# Altium footprint library con-hirose.PCBLIB: 71 footprints (part 4 of 6)
Each footprint in its own frame and in the unit in brackets; x right, y up, seen from the top. Pads: shape width x height; smd on the part's side, far side on the other; paste and mask are expansions set on the pad; w line width, h text height; cw(c..) or ccw(c..) is an arc to the next point about the centre after c.
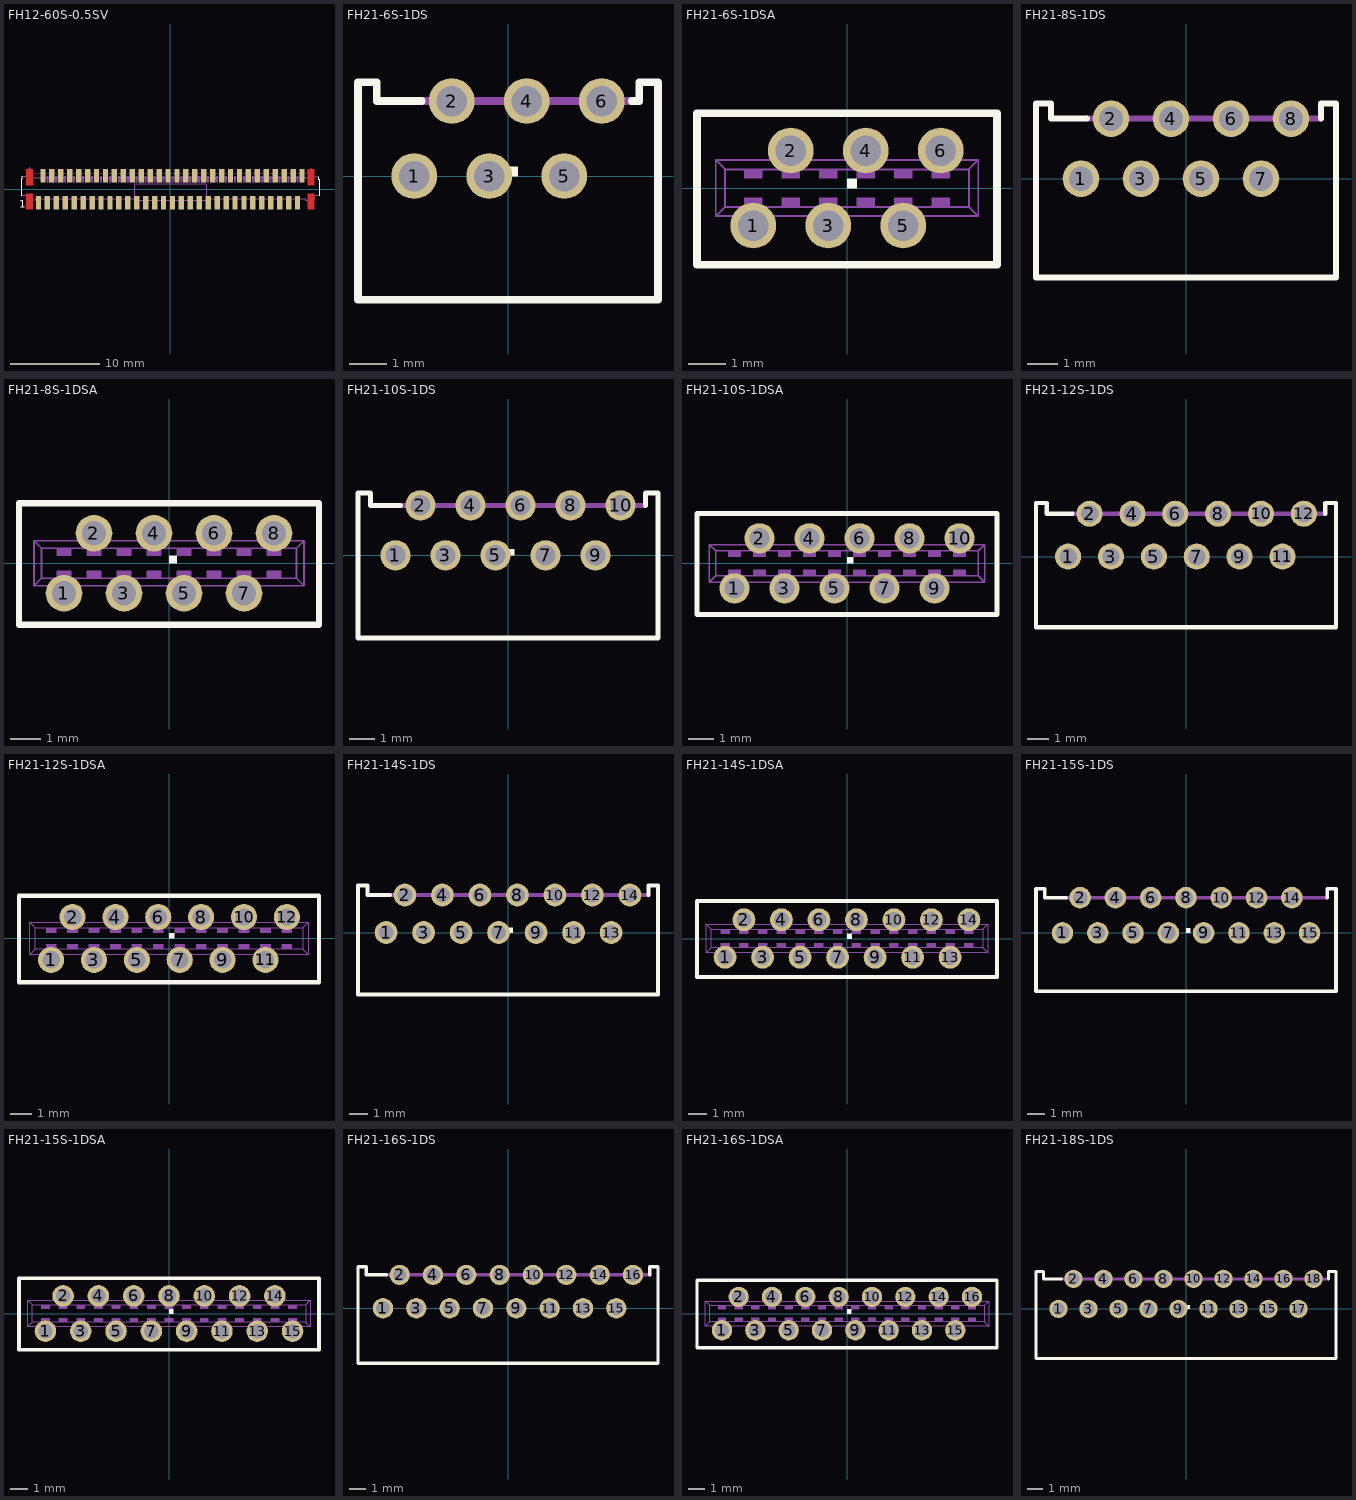
[diagram p3: the footprints below, top view; thin cyan lines are the x and y axes]

## FH12-60S-0.5SV [mm]
pads (60):
  rect 0.6x1.5 smd: 1(-14.75,-1.5) 2(-14.25,1.5) 3(-13.75,-1.5) 4(-13.25,1.5) 5(-12.75,-1.5) 6(-12.25,1.5) 7(-11.75,-1.5) 8(-11.25,1.5) 9(-10.75,-1.5) 10(-10.25,1.5) 11(-9.75,-1.5) 12(-9.25,1.5) 13(-8.75,-1.5) 14(-8.25,1.5) 15(-7.75,-1.5) 16(-7.25,1.5) 17(-6.75,-1.5) 18(-6.25,1.5) 19(-5.75,-1.5) 20(-5.25,1.5) 21(-4.75,-1.5) 22(-4.25,1.5) 23(-3.75,-1.5) 24(-3.25,1.5) 25(-2.75,-1.5) 26(-2.25,1.5) 27(-1.75,-1.5) 28(-1.25,1.5) 29(-0.75,-1.5) 30(-0.25,1.5) 31(0.25,-1.5) 32(0.75,1.5) 33(1.25,-1.5) 34(1.75,1.5) 35(2.25,-1.5) 36(2.75,1.5) 37(3.25,-1.5) 38(3.75,1.5) 39(4.25,-1.5) 40(4.75,1.5) 41(5.25,-1.5) 42(5.75,1.5) 43(6.25,-1.5) 44(6.75,1.5) 45(7.25,-1.5) 46(7.75,1.5) 47(8.25,-1.5) 48(8.75,1.5) 49(9.25,-1.5) 50(9.75,1.5) 51(10.25,-1.5) 52(10.75,1.5) 53(11.25,-1.5) 54(11.75,1.5) 55(12.25,-1.5) 56(12.75,1.5) 57(13.25,-1.5) 58(13.75,1.5) 59(14.25,-1.5) 60(14.75,1.5)
Top Layer:
  rectangle: -16.15,0.45 -15.35,2.25
  rectangle: -16.15,-2.25 -15.35,-0.45
  region: 16.15,-0.45 15.35,-0.45 15.35,-2.25 16.15,-2.25
  region: 16.15,2.25 15.35,2.25 15.35,0.45 16.15,0.45
Top Overlay:
  lines w0.102: -16.65,-0.697 -16.65,1.179 -16.55,1.179 -16.55,1.478 ; 16.55,1.427 16.55,1.129 16.65,1.129 16.65,-0.731
  text "1" at -16.932,-2.042 h0.86
Top Paste:
  rectangle: -15,-2.2 -14.5,-0.8
  rectangle: -14.5,0.8 -14,2.2
  rectangle: -14,-2.2 -13.5,-0.8
  rectangle: -13.5,0.8 -13,2.2
  rectangle: -13,-2.2 -12.5,-0.8
  rectangle: -12.5,0.8 -12,2.2
  rectangle: -12,-2.2 -11.5,-0.8
  rectangle: -11.5,0.8 -11,2.2
  rectangle: -11,-2.2 -10.5,-0.8
  rectangle: -10.5,0.8 -10,2.2
  rectangle: -10,-2.2 -9.5,-0.8
  rectangle: -9.5,0.8 -9,2.2
  rectangle: -9,-2.2 -8.5,-0.8
  rectangle: -8.5,0.8 -8,2.2
  rectangle: -8,-2.2 -7.5,-0.8
  rectangle: -7.5,0.8 -7,2.2
  rectangle: -7,-2.2 -6.5,-0.8
  rectangle: -6.5,0.8 -6,2.2
  rectangle: -6,-2.2 -5.5,-0.8
  rectangle: -5.5,0.8 -5,2.2
  rectangle: -5,-2.2 -4.5,-0.8
  rectangle: -4.5,0.8 -4,2.2
  rectangle: -4,-2.2 -3.5,-0.8
  rectangle: -3.5,0.8 -3,2.2
  rectangle: -3,-2.2 -2.5,-0.8
  rectangle: -2.5,0.8 -2,2.2
  rectangle: -2,-2.2 -1.5,-0.8
  rectangle: -1.5,0.8 -1,2.2
  rectangle: -1,-2.2 -0.5,-0.8
  rectangle: -0.5,0.8 0,2.2
  rectangle: 0,-2.2 0.5,-0.8
  rectangle: 0.5,0.8 1,2.2
  rectangle: 1,-2.2 1.5,-0.8
  rectangle: 1.5,0.8 2,2.2
  rectangle: 2,-2.2 2.5,-0.8
  rectangle: 2.5,0.8 3,2.2
  rectangle: 3,-2.2 3.5,-0.8
  rectangle: 3.5,0.8 4,2.2
  rectangle: 4,-2.2 4.5,-0.8
  rectangle: 4.5,0.8 5,2.2
  rectangle: 5,-2.2 5.5,-0.8
  rectangle: 5.5,0.8 6,2.2
  rectangle: 6,-2.2 6.5,-0.8
  rectangle: 6.5,0.8 7,2.2
  rectangle: 7,-2.2 7.5,-0.8
  rectangle: 7.5,0.8 8,2.2
  rectangle: 8,-2.2 8.5,-0.8
  rectangle: 8.5,0.8 9,2.2
  rectangle: 9,-2.2 9.5,-0.8
  rectangle: 9.5,0.8 10,2.2
  rectangle: 10,-2.2 10.5,-0.8
  rectangle: 10.5,0.8 11,2.2
  rectangle: 11,-2.2 11.5,-0.8
  rectangle: 11.5,0.8 12,2.2
  rectangle: 12,-2.2 12.5,-0.8
  rectangle: 12.5,0.8 13,2.2
  rectangle: 13,-2.2 13.5,-0.8
  rectangle: 13.5,0.8 14,2.2
  rectangle: 14,-2.2 14.5,-0.8
  rectangle: 14.5,0.8 15,2.2
  rectangle: -16.1,0.5 -15.4,2.2
  rectangle: -16.1,-2.2 -15.4,-0.5
  region: 16.1,-0.5 15.4,-0.5 15.4,-2.2 16.1,-2.2
  region: 16.1,2.2 15.4,2.2 15.4,0.5 16.1,0.5
Top Solder:
  rectangle: -15.1,-2.3 -14.4,-0.7
  rectangle: -14.6,0.7 -13.9,2.3
  rectangle: -14.1,-2.3 -13.4,-0.7
  rectangle: -13.6,0.7 -12.9,2.3
  rectangle: -13.1,-2.3 -12.4,-0.7
  rectangle: -12.6,0.7 -11.9,2.3
  rectangle: -12.1,-2.3 -11.4,-0.7
  rectangle: -11.6,0.7 -10.9,2.3
  rectangle: -11.1,-2.3 -10.4,-0.7
  rectangle: -10.6,0.7 -9.9,2.3
  rectangle: -10.1,-2.3 -9.4,-0.7
  rectangle: -9.6,0.7 -8.9,2.3
  rectangle: -9.1,-2.3 -8.4,-0.7
  rectangle: -8.6,0.7 -7.9,2.3
  rectangle: -8.1,-2.3 -7.4,-0.7
  rectangle: -7.6,0.7 -6.9,2.3
  rectangle: -7.1,-2.3 -6.4,-0.7
  rectangle: -6.6,0.7 -5.9,2.3
  rectangle: -6.1,-2.3 -5.4,-0.7
  rectangle: -5.6,0.7 -4.9,2.3
  rectangle: -5.1,-2.3 -4.4,-0.7
  rectangle: -4.6,0.7 -3.9,2.3
  rectangle: -4.1,-2.3 -3.4,-0.7
  rectangle: -3.6,0.7 -2.9,2.3
  rectangle: -3.1,-2.3 -2.4,-0.7
  rectangle: -2.6,0.7 -1.9,2.3
  rectangle: -2.1,-2.3 -1.4,-0.7
  rectangle: -1.6,0.7 -0.9,2.3
  rectangle: -1.1,-2.3 -0.4,-0.7
  rectangle: -0.6,0.7 0.1,2.3
  rectangle: -0.1,-2.3 0.6,-0.7
  rectangle: 0.4,0.7 1.1,2.3
  rectangle: 0.9,-2.3 1.6,-0.7
  rectangle: 1.4,0.7 2.1,2.3
  rectangle: 1.9,-2.3 2.6,-0.7
  rectangle: 2.4,0.7 3.1,2.3
  rectangle: 2.9,-2.3 3.6,-0.7
  rectangle: 3.4,0.7 4.1,2.3
  rectangle: 3.9,-2.3 4.6,-0.7
  rectangle: 4.4,0.7 5.1,2.3
  rectangle: 4.9,-2.3 5.6,-0.7
  rectangle: 5.4,0.7 6.1,2.3
  rectangle: 5.9,-2.3 6.6,-0.7
  rectangle: 6.4,0.7 7.1,2.3
  rectangle: 6.9,-2.3 7.6,-0.7
  rectangle: 7.4,0.7 8.1,2.3
  rectangle: 7.9,-2.3 8.6,-0.7
  rectangle: 8.4,0.7 9.1,2.3
  rectangle: 8.9,-2.3 9.6,-0.7
  rectangle: 9.4,0.7 10.1,2.3
  rectangle: 9.9,-2.3 10.6,-0.7
  rectangle: 10.4,0.7 11.1,2.3
  rectangle: 10.9,-2.3 11.6,-0.7
  rectangle: 11.4,0.7 12.1,2.3
  rectangle: 11.9,-2.3 12.6,-0.7
  rectangle: 12.4,0.7 13.1,2.3
  rectangle: 12.9,-2.3 13.6,-0.7
  rectangle: 13.4,0.7 14.1,2.3
  rectangle: 13.9,-2.3 14.6,-0.7
  rectangle: 14.4,0.7 15.1,2.3
  rectangle: -16.225,0.375 -15.275,2.325
  rectangle: -16.225,-2.325 -15.275,-0.375
  region: 16.225,-0.375 15.275,-0.375 15.275,-2.325 16.225,-2.325
  region: 16.225,2.325 15.275,2.325 15.275,0.375 16.225,0.375
Mechanical 16:
  drawing of 161 lines, arcs and shapes, not listed

## FH21-6S-1DS [mil]
pads (6):
  round 48 hole 32: 1(-98.43,0) 2(-59.06,78.74) 3(-19.69,0) 4(19.69,78.74) 5(59.06,0) 6(98.43,78.74)
Top Overlay:
  region: 0,0 10,0 10,10 0,10
  lines w8: -90.55,78.74 -137.8,78.74 -137.8,98.43 -157.48,98.43 -157.48,-129.92 157.48,-129.92 157.48,98.43 137.8,98.43 137.8,78.74 129.92,78.74
Mechanical 16:
  lines w8: -90.55,78.74 137.8,78.74

## FH21-6S-1DSA [mil]
pads (6):
  round 48 hole 32: 1(-98.43,-39.37) 2(-59.06,39.37) 3(-19.69,-39.37) 4(19.69,39.37) 5(59.06,-39.37) 6(98.43,39.37)
Top Overlay:
  region: 0,0 10,0 10,10 0,10
  lines w8: -157.48,-80.71 157.48,-80.71 157.48,78.74 -157.48,78.74 -157.48,-80.71
Mechanical 16:
  rectangle: -108.27,-19.69 -88.58,-9.84
  rectangle: -108.27,9.84 -88.58,19.69
  rectangle: -68.9,9.84 -49.21,19.69
  rectangle: -68.9,-19.69 -49.21,-9.84
  rectangle: -29.53,9.84 -9.84,19.69
  rectangle: -29.53,-19.69 -9.84,-9.84
  rectangle: 9.84,9.84 29.53,19.69
  rectangle: 9.84,-19.69 29.53,-9.84
  rectangle: 49.21,9.84 68.9,19.69
  rectangle: 49.21,-19.69 68.9,-9.84
  rectangle: 88.58,9.84 108.27,19.69
  rectangle: 88.58,-19.69 108.27,-9.84
  lines w2: -137.8,-29.53 137.8,-29.53 ; -137.8,-29.53 -137.8,29.53 ; -137.8,-29.53 -127.95,-19.69 ; -137.8,29.53 137.8,29.53 ; -137.8,29.53 -127.95,19.69 ; -127.95,-19.69 127.95,-19.69 ; -127.95,-19.69 -127.95,19.69 ; -127.95,19.69 127.95,19.69 ; 127.95,-19.69 127.95,19.69 ; 127.95,-19.69 137.8,-29.53 ; 127.95,19.69 137.8,29.53 ; 137.8,-29.53 137.8,29.53

## FH21-8S-1DS [mil]
pads (8):
  round 48 hole 32: 1(-137.8,0) 2(-98.43,78.74) 3(-59.06,0) 4(-19.69,78.74) 5(19.69,0) 6(59.06,78.74) 7(98.43,0) 8(137.8,78.74)
Top Overlay:
  region: 0,0 10,0 10,10 0,10
  lines w8: -129.92,78.74 -177.17,78.74 -177.17,98.43 -196.85,98.43 -196.85,-129.92 196.85,-129.92 196.85,98.43 177.17,98.43 177.17,78.74
Mechanical 16:
  lines w8: -129.92,78.74 177.17,78.74

## FH21-8S-1DSA [mil]
pads (8):
  round 48 hole 32: 1(-137.8,-39.37) 2(-98.43,39.37) 3(-59.06,-39.37) 4(-19.69,39.37) 5(19.69,-39.37) 6(59.06,39.37) 7(98.43,-39.37) 8(137.8,39.37)
Top Overlay:
  region: 0,0 10,0 10,10 0,10
  lines w8: -196.85,-80.71 196.85,-80.71 196.85,78.74 -196.85,78.74 -196.85,-80.71
Mechanical 16:
  rectangle: -147.64,-19.69 -127.95,-9.84
  rectangle: -147.64,9.84 -127.95,19.69
  rectangle: -108.27,9.84 -88.58,19.69
  rectangle: -108.27,-19.69 -88.58,-9.84
  rectangle: -68.9,9.84 -49.21,19.69
  rectangle: -68.9,-19.69 -49.21,-9.84
  rectangle: -29.53,9.84 -9.84,19.69
  rectangle: -29.53,-19.69 -9.84,-9.84
  rectangle: 9.84,9.84 29.53,19.69
  rectangle: 9.84,-19.69 29.53,-9.84
  rectangle: 49.21,9.84 68.9,19.69
  rectangle: 49.21,-19.69 68.9,-9.84
  rectangle: 88.58,9.84 108.27,19.69
  rectangle: 127.95,9.84 147.64,19.69
  rectangle: 88.58,-19.69 108.27,-9.84
  rectangle: 127.95,-19.69 147.64,-9.84
  lines w2: -177.17,-29.53 177.17,-29.53 ; -177.17,-29.53 -177.17,29.53 ; -177.17,-29.53 -167.32,-19.69 ; -177.17,29.53 177.17,29.53 ; -177.17,29.53 -167.32,19.69 ; -167.32,-19.69 167.32,-19.69 ; -167.32,-19.69 -167.32,19.69 ; -167.32,19.69 167.32,19.69 ; 167.32,-19.69 167.32,19.69 ; 167.32,-19.69 177.17,-29.53 ; 167.32,19.69 177.17,29.53 ; 177.17,-29.53 177.17,29.53

## FH21-10S-1DS [mil]
pads (10):
  round 48 hole 32: 1(-177.17,0) 2(-137.8,78.74) 3(-98.43,0) 4(-59.06,78.74) 5(-19.69,0) 6(19.69,78.74) 7(59.06,0) 8(98.43,78.74) 9(137.8,0) 10(177.17,78.74)
Top Overlay:
  region: 0,0 10,0 10,10 0,10
  lines w8: -169.29,78.74 -216.54,78.74 -216.54,98.43 -236.22,98.43 -236.22,-129.92 236.22,-129.92 236.22,98.43 216.54,98.43 216.54,78.74
Mechanical 16:
  lines w8: -169.29,78.74 216.54,78.74

## FH21-10S-1DSA [mil]
pads (10):
  round 48 hole 32: 1(-177.17,-39.37) 2(-137.8,39.37) 3(-98.43,-39.37) 4(-59.06,39.37) 5(-19.69,-39.37) 6(19.69,39.37) 7(59.06,-39.37) 8(98.43,39.37) 9(137.8,-39.37) 10(177.17,39.37)
Top Overlay:
  region: 0,0 10,0 10,10 0,10
  lines w8: -236.22,-80.71 236.22,-80.71 236.22,78.74 -236.22,78.74 -236.22,-80.71
Mechanical 16:
  rectangle: -187.01,-19.69 -167.32,-9.84
  rectangle: -187.01,9.84 -167.32,19.69
  rectangle: -147.64,9.84 -127.95,19.69
  rectangle: -147.64,-19.69 -127.95,-9.84
  rectangle: -108.27,9.84 -88.58,19.69
  rectangle: -108.27,-19.69 -88.58,-9.84
  rectangle: -68.9,9.84 -49.21,19.69
  rectangle: -68.9,-19.69 -49.21,-9.84
  rectangle: -29.53,9.84 -9.84,19.69
  rectangle: -29.53,-19.69 -9.84,-9.84
  rectangle: 9.84,9.84 29.53,19.69
  rectangle: 9.84,-19.69 29.53,-9.84
  rectangle: 49.21,9.84 68.9,19.69
  rectangle: 88.58,9.84 108.27,19.69
  rectangle: 127.95,9.84 147.64,19.69
  rectangle: 167.32,9.84 187.01,19.69
  rectangle: 49.21,-19.69 68.9,-9.84
  rectangle: 88.58,-19.69 108.27,-9.84
  rectangle: 127.95,-19.69 147.64,-9.84
  rectangle: 167.32,-19.69 187.01,-9.84
  lines w2: -216.54,-29.53 216.54,-29.53 ; -216.54,-29.53 -216.54,29.53 ; -216.54,-29.53 -206.69,-19.69 ; -216.54,29.53 216.54,29.53 ; -216.54,29.53 -206.69,19.69 ; -206.69,-19.69 206.69,-19.69 ; -206.69,-19.69 -206.69,19.69 ; -206.69,19.69 206.69,19.69 ; 206.69,-19.69 206.69,19.69 ; 206.69,-19.69 216.54,-29.53 ; 206.69,19.69 216.54,29.53 ; 216.54,-29.53 216.54,29.53

## FH21-12S-1DS [mil]
pads (12):
  round 48 hole 32: 1(-216.54,0) 2(-177.17,78.74) 3(-137.8,0) 4(-98.43,78.74) 5(-59.06,0) 6(-19.69,78.74) 7(19.69,0) 8(59.06,78.74) 9(98.43,0) 10(137.8,78.74) 11(177.17,0) 12(216.54,78.74)
Top Overlay:
  region: 0,0 10,0 10,10 0,10
  lines w8: -208.66,78.74 -255.91,78.74 -255.91,98.43 -275.59,98.43 -275.59,-129.92 275.59,-129.92 275.59,98.43 255.91,98.43 255.91,78.74
Mechanical 16:
  lines w8: -208.66,78.74 255.91,78.74

## FH21-12S-1DSA [mil]
pads (12):
  round 48 hole 32: 1(-216.54,-39.37) 2(-177.17,39.37) 3(-137.8,-39.37) 4(-98.43,39.37) 5(-59.06,-39.37) 6(-19.69,39.37) 7(19.69,-39.37) 8(59.06,39.37) 9(98.43,-39.37) 10(137.8,39.37) 11(177.17,-39.37) 12(216.54,39.37)
Top Overlay:
  region: 0,0 10,0 10,10 0,10
  lines w8: -275.59,-80.71 275.59,-80.71 275.59,78.74 -275.59,78.74 -275.59,-80.71
Mechanical 16:
  rectangle: -226.38,-19.69 -206.69,-9.84
  rectangle: -226.38,9.84 -206.69,19.69
  rectangle: -187.01,9.84 -167.32,19.69
  rectangle: -187.01,-19.69 -167.32,-9.84
  rectangle: -147.64,9.84 -127.95,19.69
  rectangle: -147.64,-19.69 -127.95,-9.84
  rectangle: -108.27,9.84 -88.58,19.69
  rectangle: -108.27,-19.69 -88.58,-9.84
  rectangle: -68.9,9.84 -49.21,19.69
  rectangle: -68.9,-19.69 -49.21,-9.84
  rectangle: -29.53,9.84 -9.84,19.69
  rectangle: -29.53,-19.69 -9.84,-9.84
  rectangle: 9.84,9.84 29.53,19.69
  rectangle: 49.21,9.84 68.9,19.69
  rectangle: 88.58,9.84 108.27,19.69
  rectangle: 127.95,9.84 147.64,19.69
  rectangle: 9.84,-19.69 29.53,-9.84
  rectangle: 49.21,-19.69 68.9,-9.84
  rectangle: 88.58,-19.69 108.27,-9.84
  rectangle: 127.95,-19.69 147.64,-9.84
  rectangle: 206.69,9.84 226.38,19.69
  rectangle: 167.32,9.84 187.01,19.69
  rectangle: 167.32,-19.69 187.01,-9.84
  rectangle: 206.69,-19.69 226.38,-9.84
  lines w2: -255.91,-29.53 255.91,-29.53 ; -255.91,-29.53 -255.91,29.53 ; -255.91,-29.53 -246.06,-19.69 ; -255.91,29.53 255.91,29.53 ; -255.91,29.53 -246.06,19.69 ; -246.06,-19.69 246.06,-19.69 ; -246.06,-19.69 -246.06,19.69 ; -246.06,19.69 246.06,19.69 ; 246.06,-19.69 246.06,19.69 ; 246.06,-19.69 255.91,-29.53 ; 246.06,19.69 255.91,29.53 ; 255.91,-29.53 255.91,29.53

## FH21-14S-1DS [mil]
pads (14):
  round 48 hole 32: 1(-255.91,0) 2(-216.54,78.74) 3(-177.17,0) 4(-137.8,78.74) 5(-98.43,0) 6(-59.06,78.74) 7(-19.69,0) 8(19.69,78.74) 9(59.06,0) 10(98.43,78.74) 11(137.8,0) 12(177.17,78.74) 13(216.54,0) 14(255.91,78.74)
Top Overlay:
  region: 0,0 10,0 10,10 0,10
  lines w8: -248.03,78.74 -295.28,78.74 -295.28,98.43 -314.96,98.43 -314.96,-129.92 314.96,-129.92 314.96,98.43 295.28,98.43 295.28,78.74
Mechanical 16:
  lines w8: -248.03,78.74 295.28,78.74

## FH21-14S-1DSA [mil]
pads (14):
  round 48 hole 32: 1(-255.91,-39.37) 2(-216.54,39.37) 3(-177.17,-39.37) 4(-137.8,39.37) 5(-98.43,-39.37) 6(-59.06,39.37) 7(-19.69,-39.37) 8(19.69,39.37) 9(59.06,-39.37) 10(98.43,39.37) 11(137.8,-39.37) 12(177.17,39.37) 13(216.54,-39.37) 14(255.91,39.37)
Top Overlay:
  region: 0,0 10,0 10,10 0,10
  lines w8: -314.96,-80.71 314.96,-80.71 314.96,78.74 -314.96,78.74 -314.96,-80.71
Mechanical 16:
  rectangle: -265.75,-19.69 -246.06,-9.84
  rectangle: -265.75,9.84 -246.06,19.69
  rectangle: -226.38,9.84 -206.69,19.69
  rectangle: -226.38,-19.69 -206.69,-9.84
  rectangle: -187.01,9.84 -167.32,19.69
  rectangle: -187.01,-19.69 -167.32,-9.84
  rectangle: -147.64,9.84 -127.95,19.69
  rectangle: -147.64,-19.69 -127.95,-9.84
  rectangle: -108.27,9.84 -88.58,19.69
  rectangle: -108.27,-19.69 -88.58,-9.84
  rectangle: -68.9,9.84 -49.21,19.69
  rectangle: -68.9,-19.69 -49.21,-9.84
  rectangle: -29.53,9.84 -9.84,19.69
  rectangle: 9.84,9.84 29.53,19.69
  rectangle: 49.21,9.84 68.9,19.69
  rectangle: 88.58,9.84 108.27,19.69
  rectangle: -29.53,-19.69 -9.84,-9.84
  rectangle: 9.84,-19.69 29.53,-9.84
  rectangle: 49.21,-19.69 68.9,-9.84
  rectangle: 88.58,-19.69 108.27,-9.84
  rectangle: 167.32,9.84 187.01,19.69
  rectangle: 127.95,9.84 147.64,19.69
  rectangle: 127.95,-19.69 147.64,-9.84
  rectangle: 167.32,-19.69 187.01,-9.84
  rectangle: 206.69,9.84 226.38,19.69
  rectangle: 246.06,9.84 265.75,19.69
  rectangle: 206.69,-19.69 226.38,-9.84
  rectangle: 246.06,-19.69 265.75,-9.84
  lines w2: -295.28,-29.53 295.28,-29.53 ; -295.28,-29.53 -295.28,29.53 ; -295.28,-29.53 -285.43,-19.69 ; -295.28,29.53 295.28,29.53 ; -295.28,29.53 -285.43,19.69 ; -285.43,-19.69 285.43,-19.69 ; -285.43,-19.69 -285.43,19.69 ; -285.43,19.69 285.43,19.69 ; 285.43,-19.69 285.43,19.69 ; 285.43,-19.69 295.28,-29.53 ; 285.43,19.69 295.28,29.53 ; 295.28,-29.53 295.28,29.53

## FH21-15S-1DS [mil]
pads (15):
  round 48 hole 32: 1(-275.59,0) 2(-236.22,78.74) 3(-196.85,0) 4(-157.48,78.74) 5(-118.11,0) 6(-78.74,78.74) 7(-39.37,0) 8(0,78.74) 9(39.37,0) 10(78.74,78.74) 11(118.11,0) 12(157.48,78.74) 13(196.85,0) 14(236.22,78.74) 15(275.59,0)
Top Overlay:
  region: 0,0 10,0 10,10 0,10
  lines w8: -267.72,78.74 -314.96,78.74 -314.96,98.43 -334.65,98.43 -334.65,-129.92 334.65,-129.92 334.65,98.43 314.96,98.43 314.96,78.74
Mechanical 16:
  lines w8: -267.72,78.74 314.96,78.74

## FH21-15S-1DSA [mil]
pads (15):
  round 48 hole 32: 1(-275.59,-39.37) 2(-236.22,39.37) 3(-196.85,-39.37) 4(-157.48,39.37) 5(-118.11,-39.37) 6(-78.74,39.37) 7(-39.37,-39.37) 8(0,39.37) 9(39.37,-39.37) 10(78.74,39.37) 11(118.11,-39.37) 12(157.48,39.37) 13(196.85,-39.37) 14(236.22,39.37) 15(275.59,-39.37)
Top Overlay:
  region: 0,0 10,0 10,10 0,10
  lines w8: -334.65,-80.71 334.65,-80.71 334.65,78.74 -334.65,78.74 -334.65,-80.71
Mechanical 16:
  rectangle: -285.43,-19.69 -265.75,-9.84
  rectangle: -285.43,9.84 -265.75,19.69
  rectangle: -246.06,9.84 -226.38,19.69
  rectangle: -246.06,-19.69 -226.38,-9.84
  rectangle: -206.69,9.84 -187.01,19.69
  rectangle: -206.69,-19.69 -187.01,-9.84
  rectangle: -167.32,9.84 -147.64,19.69
  rectangle: -167.32,-19.69 -147.64,-9.84
  rectangle: -127.95,9.84 -108.27,19.69
  rectangle: -127.95,-19.69 -108.27,-9.84
  rectangle: -88.58,9.84 -68.9,19.69
  rectangle: -88.58,-19.69 -68.9,-9.84
  rectangle: -49.21,9.84 -29.53,19.69
  rectangle: -9.84,9.84 9.84,19.69
  rectangle: 29.53,9.84 49.21,19.69
  rectangle: 68.9,9.84 88.58,19.69
  rectangle: -49.21,-19.69 -29.53,-9.84
  rectangle: -9.84,-19.69 9.84,-9.84
  rectangle: 29.53,-19.69 49.21,-9.84
  rectangle: 68.9,-19.69 88.58,-9.84
  rectangle: 147.64,9.84 167.32,19.69
  rectangle: 108.27,9.84 127.95,19.69
  rectangle: 108.27,-19.69 127.95,-9.84
  rectangle: 147.64,-19.69 167.32,-9.84
  rectangle: 187.01,9.84 206.69,19.69
  rectangle: 226.38,9.84 246.06,19.69
  rectangle: 187.01,-19.69 206.69,-9.84
  rectangle: 226.38,-19.69 246.06,-9.84
  rectangle: 265.75,9.84 285.43,19.69
  rectangle: 265.75,-19.69 285.43,-9.84
  lines w2: -314.96,-29.53 314.96,-29.53 ; -314.96,-29.53 -314.96,29.53 ; -314.96,-29.53 -305.12,-19.69 ; -314.96,29.53 314.96,29.53 ; -314.96,29.53 -305.12,19.69 ; -305.12,-19.69 305.12,-19.69 ; -305.12,-19.69 -305.12,19.69 ; -305.12,19.69 305.12,19.69 ; 305.12,-19.69 305.12,19.69 ; 305.12,-19.69 314.96,-29.53 ; 305.12,19.69 314.96,29.53 ; 314.96,-29.53 314.96,29.53

## FH21-16S-1DS [mil]
pads (16):
  round 48 hole 32: 1(-295.28,0) 2(-255.91,78.74) 3(-216.54,0) 4(-177.17,78.74) 5(-137.8,0) 6(-98.43,78.74) 7(-59.06,0) 8(-19.69,78.74) 9(19.69,0) 10(59.06,78.74) 11(98.43,0) 12(137.8,78.74) 13(177.17,0) 14(216.54,78.74) 15(255.91,0) 16(295.28,78.74)
Top Overlay:
  region: 0,0 10,0 10,10 0,10
  lines w8: -287.4,78.74 -334.65,78.74 -334.65,98.43 -354.33,98.43 -354.33,-129.92 354.33,-129.92 354.33,98.43 334.65,98.43 334.65,78.74
Mechanical 16:
  lines w8: -287.4,78.74 334.65,78.74

## FH21-16S-1DSA [mil]
pads (16):
  round 48 hole 32: 1(-295.28,-39.37) 2(-255.91,39.37) 3(-216.54,-39.37) 4(-177.17,39.37) 5(-137.8,-39.37) 6(-98.43,39.37) 7(-59.06,-39.37) 8(-19.69,39.37) 9(19.69,-39.37) 10(59.06,39.37) 11(98.43,-39.37) 12(137.8,39.37) 13(177.17,-39.37) 14(216.54,39.37) 15(255.91,-39.37) 16(295.28,39.37)
Top Overlay:
  region: 0,0 10,0 10,10 0,10
  lines w8: -354.33,-80.71 354.33,-80.71 354.33,78.74 -354.33,78.74 -354.33,-80.71
Mechanical 16:
  rectangle: -305.12,-19.69 -285.43,-9.84
  rectangle: -305.12,9.84 -285.43,19.69
  rectangle: -265.75,9.84 -246.06,19.69
  rectangle: -265.75,-19.69 -246.06,-9.84
  rectangle: -226.38,9.84 -206.69,19.69
  rectangle: -226.38,-19.69 -206.69,-9.84
  rectangle: -187.01,9.84 -167.32,19.69
  rectangle: -187.01,-19.69 -167.32,-9.84
  rectangle: -147.64,9.84 -127.95,19.69
  rectangle: -147.64,-19.69 -127.95,-9.84
  rectangle: -108.27,9.84 -88.58,19.69
  rectangle: -108.27,-19.69 -88.58,-9.84
  rectangle: -68.9,9.84 -49.21,19.69
  rectangle: -29.53,9.84 -9.84,19.69
  rectangle: 9.84,9.84 29.53,19.69
  rectangle: 49.21,9.84 68.9,19.69
  rectangle: -68.9,-19.69 -49.21,-9.84
  rectangle: -29.53,-19.69 -9.84,-9.84
  rectangle: 9.84,-19.69 29.53,-9.84
  rectangle: 49.21,-19.69 68.9,-9.84
  rectangle: 127.95,9.84 147.64,19.69
  rectangle: 88.58,9.84 108.27,19.69
  rectangle: 88.58,-19.69 108.27,-9.84
  rectangle: 127.95,-19.69 147.64,-9.84
  rectangle: 167.32,9.84 187.01,19.69
  rectangle: 206.69,9.84 226.38,19.69
  rectangle: 167.32,-19.69 187.01,-9.84
  rectangle: 206.69,-19.69 226.38,-9.84
  rectangle: 246.06,9.84 265.75,19.69
  rectangle: 285.43,9.84 305.12,19.69
  rectangle: 246.06,-19.69 265.75,-9.84
  rectangle: 285.43,-19.69 305.12,-9.84
  lines w2: -334.65,-29.53 334.65,-29.53 ; -334.65,-29.53 -334.65,29.53 ; -334.65,-29.53 -324.8,-19.69 ; -334.65,29.53 334.65,29.53 ; -334.65,29.53 -324.8,19.69 ; -324.8,-19.69 324.8,-19.69 ; -324.8,-19.69 -324.8,19.69 ; -324.8,19.69 324.8,19.69 ; 324.8,-19.69 324.8,19.69 ; 324.8,-19.69 334.65,-29.53 ; 324.8,19.69 334.65,29.53 ; 334.65,-29.53 334.65,29.53

## FH21-18S-1DS [mil]
pads (18):
  round 48 hole 32: 1(-334.65,0) 2(-295.28,78.74) 3(-255.91,0) 4(-216.54,78.74) 5(-177.17,0) 6(-137.8,78.74) 7(-98.43,0) 8(-59.06,78.74) 9(-19.69,0) 10(19.69,78.74) 11(59.06,0) 12(98.43,78.74) 13(137.8,0) 14(177.17,78.74) 15(216.54,0) 16(255.91,78.74) 17(295.28,0) 18(334.65,78.74)
Top Overlay:
  region: 0,0 10,0 10,10 0,10
  lines w8: -326.77,78.74 -374.02,78.74 -374.02,98.43 -393.7,98.43 -393.7,-129.92 393.7,-129.92 393.7,98.43 374.02,98.43 374.02,78.74
Mechanical 16:
  lines w8: -326.77,78.74 374.02,78.74